# EAGLE library part LTC3122 (library LTC3122)
Step-Up DC-DC Converter
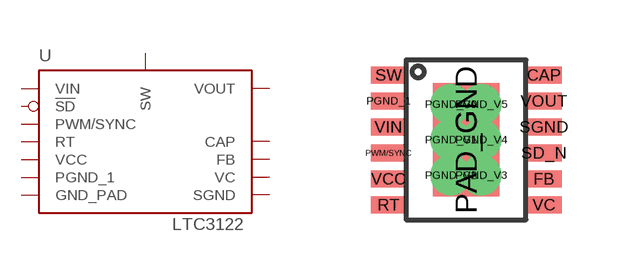
[diagram p0: symbol with the pads of MSOP-12; footprint MSOP-12]

Designator prefix -

## LTC3122  [MSOP-12]
CAP  CAP
FB  FB
PAD_GND  GND_PAD
PGND_1  PGND_1
PGND_V0  GND_PAD
PGND_V1  GND_PAD
PGND_V2  GND_PAD
PGND_V3  GND_PAD
PGND_V4  GND_PAD
PGND_V5  GND_PAD
PWM/SYNC  PWM/SYNC
RT  RT
SD_N  !SD
SGND  SGND
SW  SW
VC  VC
VCC  VCC
VIN  VIN
VOUT  VOUT

## Footprint MSOP-12 (pad centres in mm)
smd 0.889 x 0.42: CAP 1.95,1.62; FB 1.95,-0.98; PGND_1 -1.94,0.97; PWM/SYNC -1.94,-0.33; RT -1.94,-1.63; SD_N 1.95,-0.33; SGND 1.95,0.32; SW -1.94,1.62; VC 1.95,-1.63; VCC -1.94,-0.98; VIN -1.94,0.32; VOUT 1.95,0.97
smd 1.66 x 2.84: PAD_GND 0,0
drill 0.5 pad 0.61: PGND_V0 -0.381,0.889; PGND_V1 -0.381,0; PGND_V2 -0.381,-0.889; PGND_V3 0.381,-0.889; PGND_V4 0.381,0; PGND_V5 0.381,0.889